# Altium schematic symbol library SS24.SchLib: 1 symbol
Pins are listed as number, name and electrical type; pins without a type are passive.

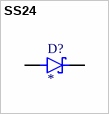
[diagram p0: symbol SS24]

## SS24
designator D?
2A, 40V, Schottky Rectifier; MF: Taiwan Semiconductor; MP: SS24; Package: SMB-2 Taiwan Semiconductor; Price: None; Value: *; SnapEDA_Link: https://www.snapeda.com/parts/SS24/Taiwan+Semiconductor/view-part/?ref=snap; Availability: In Stock; Check_prices: https://www.snapeda.com/parts/SS24/Taiwan+Semiconductor/view-part/?ref=eda
footprint DIOM4336X265N
pins: A, C K